# Altium schematic symbol library LT1932.Schlib: 1 symbol
Pins are listed as number, name and electrical type; pins without a type are passive.

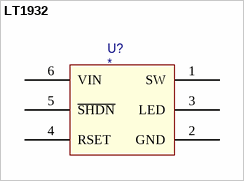
[diagram p0: symbol LT1932]

## LT1932
designator U?
pins: 1 SW, 2 GND, 3 LED, 4 RSET, 5 ~{SHDN}, 6 VIN